# EAGLE library part PROTOCOLUMN-VCC (library xess)
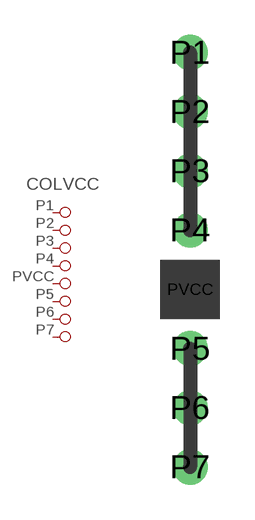
[diagram p156: symbol with the pads of PROTOCOLUMN-VCC; footprint PROTOCOLUMN-VCC]

Designator prefix COLVCC

## PROTOCOLUMN-VCC  [PROTOCOLUMN-VCC]
P1  1  pas
P2  2  pas
P3  3  pas
P4  4  pas
P5  6  pas
P6  7  pas
P7  8  pas
PVCC  5  pas

## Footprint PROTOCOLUMN-VCC (pad centres in mm)
drill 1 round: P1 0,10.16; P2 0,7.62; P3 0,5.08; P4 0,2.54; P5 0,-2.54; P6 0,-5.08; P7 0,-7.62; PVCC 0,0